# EAGLE library part PINS_ARDUINO_DIGITAL1 (library arduino)
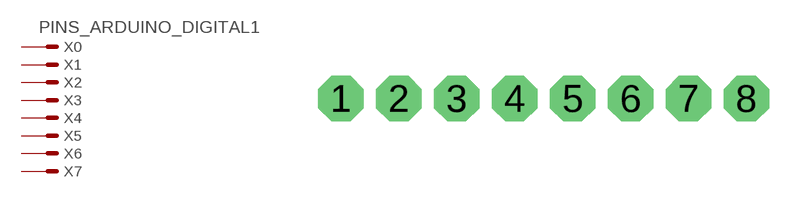
[diagram p3: symbol with the pads of 8PIN; footprint 8PIN]

Designator prefix X; gates 0=MV 1=M 2=M 3=M 4=M 5=M 6=M 7=M

## PINS_ARDUINO_DIGITAL1  [8PIN]
1  0:S  pas
2  1:S  pas
3  2:S  pas
4  3:S  pas
5  4:S  pas
6  5:S  pas
7  6:S  pas
8  7:S  pas

## Footprint 8PIN (pad centres in mm)
CONNECTOR series 057 contact pc board low profile headers straight
drill 1 pad 2 octagon: 1 -8.89,-1.27; 2 -6.35,-1.27; 3 -3.81,-1.27; 4 -1.27,-1.27; 5 1.27,-1.27; 6 3.81,-1.27; 7 6.35,-1.27; 8 8.89,-1.27